# Altium integrated library SCTW100N65G2AG.IntLib: 2 symbols
Pins are listed as number, name and electrical type; pins without a type are passive.

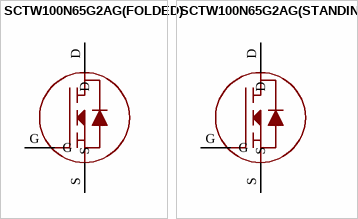
[diagram p0: symbols SCTW100N65G2AG(FOLDED) to SCTW100N65G2AG(STANDING)]

## SCTW100N65G2AG(FOLDED)
designator ?
GateName_1: G$1; SymbolName_1: SCTW100N65G2AG; DeviceSetName: SCTW100N65G2AG(FOLDED); LibraryName: SCTW100N65G2AG; Package: SCTW100N65G2AG(FOLDED)
footprint SCTW100N65G2AG(FOLDED)
pins: D, G, S

## SCTW100N65G2AG(STANDING)
designator ?
GateName_1: G$1; SymbolName_1: SCTW100N65G2AG; DeviceSetName: SCTW100N65G2AG(STANDING); LibraryName: SCTW100N65G2AG; Package: SCTW100N65G2AG(STANDING)
footprint SCTW100N65G2AG(STANDING)
pins: D, G, S